# Altium schematic symbol library MSP430.SchLib: 1 symbol
Pins are listed as number, name and electrical type; pins without a type are passive.

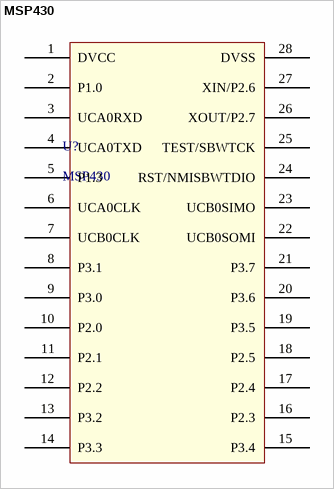
[diagram p0: symbol MSP430]

## MSP430
designator U?
footprint 28TSSOP
pins: 1 DVCC, 2 P1.0, 3 UCA0RXD, 4 UCA0TXD, 5 P1.3, 6 UCA0CLK, 7 UCB0CLK, 8 P3.1, 9 P3.0, 10 P2.0, 11 P2.1, 12 P2.2, 13 P3.2, 14 P3.3, 15 P3.4, 16 P2.3, 17 P2.4, 18 P2.5, 19 P3.5, 20 P3.6, 21 P3.7, 22 UCB0SOMI, 23 UCB0SIMO, 24 RST/NMISBWTDIO, 25 TEST/SBWTCK, 26 XOUT/P2.7, 27 XIN/P2.6, 28 DVSS